# Altium schematic symbol library MC33202D.SchLib: 1 symbol
Pins are listed as number, name and electrical type; pins without a type are passive.

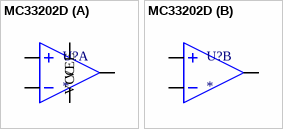
[diagram p0: symbol MC33202D]

## MC33202D
designator U?
part A pins: 1, 2, 3, 4 VEE, 8 VCC
part B pins: 5, 6, 7